# EAGLE library part CONECTOR_12 (library Conector Lancha)
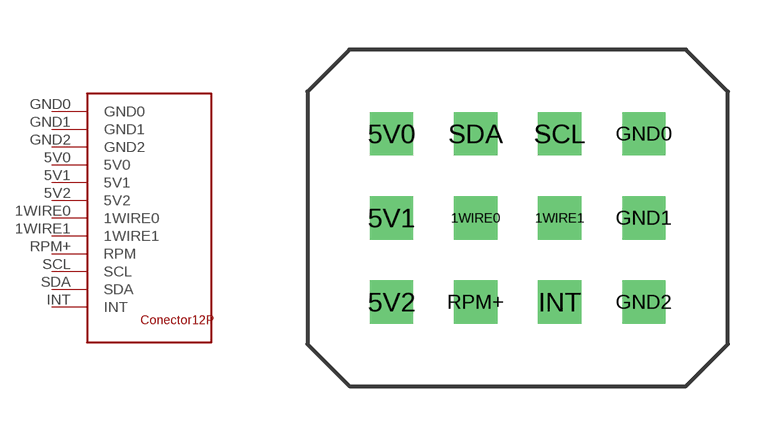
[diagram p0: symbol with the pads of CONECTOR_12; footprint CONECTOR_12]

Designator prefix -

## CONECTOR_12  [CONECTOR_12]
1WIRE0  1WIRE0
1WIRE1  1WIRE1
5V0  5V0
5V1  5V1
5V2  5V2
GND0  GND0
GND1  GND1
GND2  GND2
INT  INT
RPM+  RPM
SCL  SCL
SDA  SDA

## Footprint CONECTOR_12 (pad centres in mm)
drill 0.8 square: 1WIRE0 -1.27,0; 1WIRE1 1.27,0; 5V0 -3.81,2.54; 5V1 -3.81,0; 5V2 -3.81,-2.54; GND0 3.81,2.54; GND1 3.81,0; GND2 3.81,-2.54; INT 1.27,-2.54; RPM+ -1.27,-2.54; SCL 1.27,2.54; SDA -1.27,2.54